# Altium footprint library PcbLib1.PcbLib: 1 footprints
Each footprint in its own frame and in the unit in brackets; x right, y up, seen from the top. Pads: shape width x height; smd on the part's side, far side on the other; paste and mask are expansions set on the pad; w line width, h text height; cw(c..) or ccw(c..) is an arc to the next point about the centre after c.
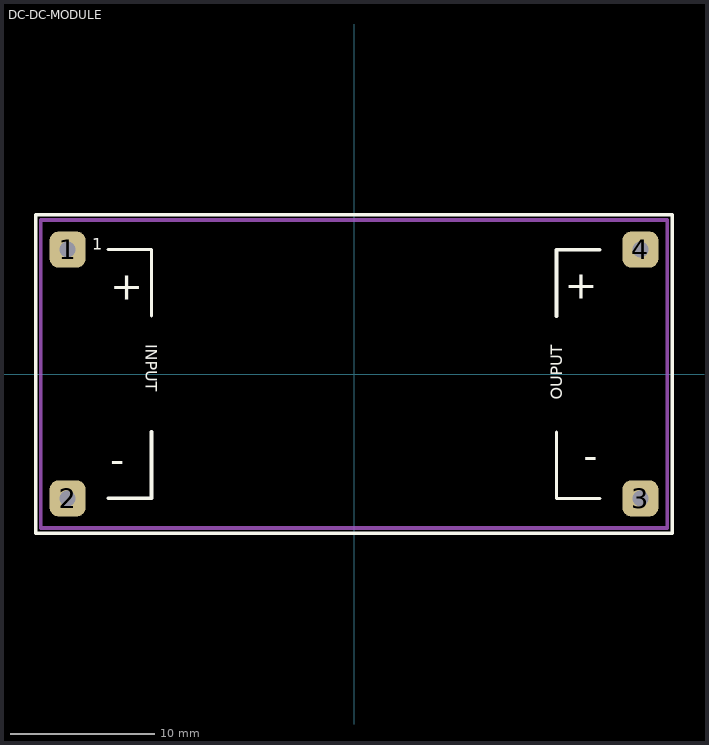
[diagram p0: the footprint, top view; thin cyan lines are the x and y axes]

## DC-DC-MODULE [mm] "LM2596 , Power Module ,  Step-Down Voltage Regulator Module"
height 13.5
pads (4):
  rrect50% 2.5x2.5 hole 1.1: 1(-19.8,8.6) 2(-19.8,-8.6) 3(19.8,-8.6) 4(19.8,8.6)
Top Overlay:
  lines w0.2: -17,8.6 -14,8.6 -14,4 ; 14,-4 14,-8.6 17,-8.6
  lines w0.25: -17,-8.6 -14,-8.6 -14,-4 ; 14,4 14,8.6 17,8.6
  lines w0.254: -22,-11 22,-11 22,11 -22,11 -22,-11
  text "1" at -18.095,8.6 h0.8
  text "INPUT" at -14.4,2.07 h0.8
  text "+" at -16.857,5.143 h2
  text "-" at -16.857,-6.857 h2
  text "OUPUT" at 14.4,-1.775 h0.8
  text "+" at 16.857,6.857 h2
  text "-" at 16.857,-5.143 h2
Mechanical 1:
  lines w0.254: -21.65,-10.65 21.65,-10.65 21.65,10.65 -21.65,10.65 -21.65,-10.65
3D body "3D-Model_LM2596.STEP": height 13.45, standoff -0.15, extent -21.65,-10.65 21.65,10.65